# EAGLE library part MC_JTOS-100 (library 1A-meinLib)
Voltage Controlled Oscillator, linear Tuning, 50MHz-..100MHz, 12VDC, 8.3dBm, Mini-Circuits
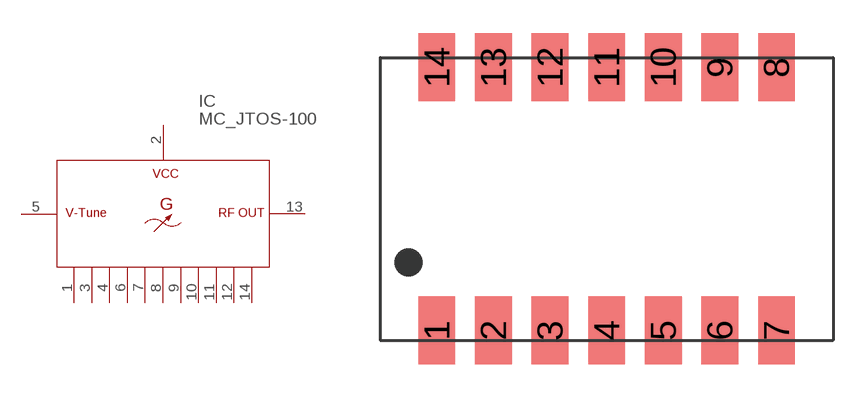
[diagram p153: symbol with the pads of MC_BK377; footprint MC_BK377]

Designator prefix IC

## MC_JTOS-100  [MC_BK377]
1  P$1  pas
2  P$2  pwr
3  P$3  pas
4  P$4  pas
5  P$5  in
6  P$6  pas
7  P$7  pas
8  P$8  pas
9  P$9  pas
10  P$10  pas
11  P$11  pas
12  P$12  pas
13  P$13  out
14  P$14  pas

## Footprint MC_BK377 (pad centres in mm)
Mini Circuit Casew Style BK377
smd 1.651 x 3.048: 1 0,0; 2 2.54,0; 3 5.08,0; 4 7.62,0; 5 10.16,0; 6 12.7,0; 7 15.24,0; 8 15.24,11.811; 9 12.7,11.811; 10 10.16,11.811; 11 7.62,11.811; 12 5.08,11.811; 13 2.54,11.811; 14 0,11.811